# EAGLE library part LM2678 (library Power Components)
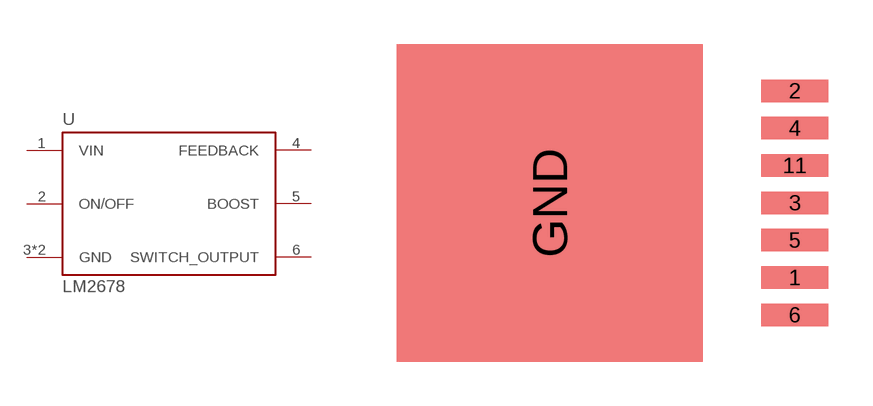
[diagram p0: symbol with the pads of TO-263-7; footprint TO-263-7]

Designator prefix -

## LM2678  [TO-263-7]
1  VIN
2  ON/OFF
3  GND
4  FEEDBACK
5  BOOST
6  SWITCH_OUTPUT
GND  GND

## Footprint TO-263-7 (pad centres in mm)
smd 2.286 x 0.762: 1 8.331,-2.54; 2 8.331,3.81; 3 8.331,0; 4 8.331,2.54; 5 8.331,-1.27; 6 8.331,-3.81; 11 8.331,1.27
smd 10.414 x 10.795: GND 0,0